# EAGLE library part AYZ0202AGRL (library idiotic-switches)
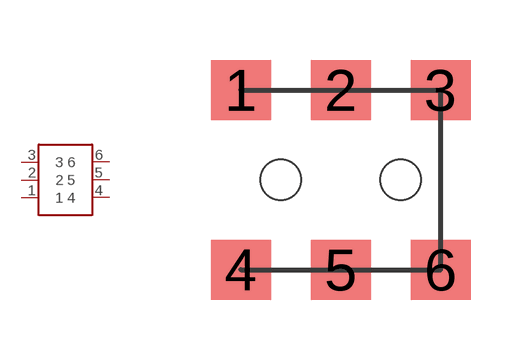
[diagram p0: symbol with the pads of AYZ0202AGRL; footprint AYZ0202AGRL]

Designator prefix -

## AYZ0202AGRL  [AYZ0202AGRL]
1  1
2  2
3  3
4  4
5  5
6  6

## Footprint AYZ0202AGRL (pad centres in mm)
smd 1.5 x 1.5: 1 -2.5,2.25; 2 0,2.25; 3 2.5,2.25; 4 -2.5,-2.25; 5 0,-2.25; 6 2.5,-2.25
hole 1.016 at -1.5,0
hole 1.016 at 1.5,0